# Altium footprint library IC_SMD_PLCC.PcbLib: 2 footprints
Each footprint in its own frame and in the unit in brackets; x right, y up, seen from the top. Pads: shape width x height; smd on the part's side, far side on the other; paste and mask are expansions set on the pad; w line width, h text height; cw(c..) or ccw(c..) is an arc to the next point about the centre after c.
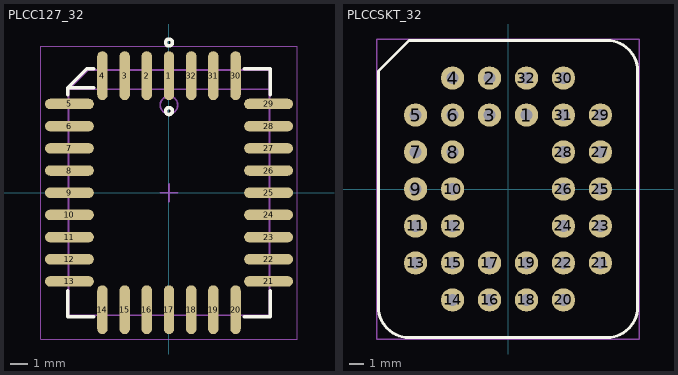
[diagram p0: the footprints below, top view; thin cyan lines are the x and y axes]

## PLCC127_32 [mm] "PLCC, 32-Leads, Body 12.45x14.50mm, Pitch 1.270mm"
height 3.2
pads (32):
  oval 0.6x2.8 smd mask+0.1: 1(0,6.7) 2(-1.27,6.7) 3(-2.54,6.7) 4(-3.81,6.7) 14(-3.81,-6.7) 15(-2.54,-6.7) 16(-1.27,-6.7) 17(0,-6.7) 18(1.27,-6.7) 19(2.54,-6.7) 20(3.81,-6.7) 30(3.81,6.7) 31(2.54,6.7) 32(1.27,6.7)
  oval 2.8x0.6 smd mask+0.1: 5(-5.7,5.08) 6(-5.7,3.81) 7(-5.7,2.54) 8(-5.7,1.27) 9(-5.7,0) 10(-5.7,-1.27) 11(-5.7,-2.54) 12(-5.7,-3.81) 13(-5.7,-5.08) 21(5.7,-5.08) 22(5.7,-3.81) 23(5.7,-2.54) 24(5.7,-1.27) 25(5.7,0) 26(5.7,1.27) 27(5.7,2.54) 28(5.7,3.81) 29(5.7,5.08)
Top Overlay:
  circle w0.2: c0,4.675 r0.2
  circle w0.2: c0,8.6 r0.2
  lines w0.2: -5.8,-5.6 -5.8,-7.1 -4.3,-7.1 ; -5.8,5.6 -5.8,6 ; -4.3,6 -5.8,6 ; -4.3,7.1 -4.7,7.1 -5.8,6 ; 4.3,-7.1 5.8,-7.1 5.8,-5.6 ; 4.3,7.1 5.8,7.1 5.8,5.6
Mechanical 13:
  circle w0.1: c0,5.02 r0.5
  lines w0.1: 5.75,5.92 -5.75,5.92 ; -5.75,5.92 -4.65,7.02 5.75,7.02 5.75,-7.02 -5.75,-7.02 -5.75,5.92
Mechanical 15:
  lines w0.05: -7.35,-8.375 7.35,-8.375 7.35,8.375 -7.35,8.375 -7.35,-8.375
  lines w0.1: -0.5,0 0.5,0 ; 0,-0.5 0,0.5
3D body "SW3dPS-PLCC32.STEP": height 2.89, standoff -0.4, extent -6.201,-7.453 6.299,7.453

## PLCCSKT_32 [mm] "PLCC-32 SOCKET, PGA"
height 1.2
pads (32):
  round 1.6 hole 0.8 mask+0.1: 1(1.27,5.08) 2(-1.27,7.62) 3(-1.27,5.08) 4(-3.81,7.62) 5(-6.35,5.08) 6(-3.81,5.08) 7(-6.35,2.54) 8(-3.81,2.54) 9(-6.35,0) 10(-3.81,0) 11(-6.35,-2.54) 12(-3.81,-2.54) 13(-6.35,-5.08) 14(-3.81,-7.62) 15(-3.81,-5.08) 16(-1.27,-7.62) 17(-1.27,-5.08) 18(1.27,-7.62) 19(1.27,-5.08) 20(3.81,-7.62) 21(6.35,-5.08) 22(3.81,-5.08) 23(6.35,-2.54) 24(3.81,-2.54) 25(6.35,0) 26(3.81,0) 27(6.35,2.54) 28(3.81,2.54) 29(6.35,5.08) 30(3.81,7.62) 31(3.81,5.08) 32(1.27,7.62)
Top Overlay:
  lines w0.2: -8.9,-8.1 ccw(c-6.8,-8.1) -6.8,-10.2 6.8,-10.2 ccw(c6.8,-8.1) 8.9,-8.1 8.9,8.1 ccw(c6.8,8.1) 6.8,10.2 -6.8,10.2 -8.9,8.1 -8.9,-8.1
Mechanical 13:
  lines w0.1: -9,-10.3 9,-10.3 9,10.3 -9,10.3 -9,-10.3
3D body "User Library-PLCC_32_Panel.step": height 8.4, standoff -2.5, extent -8.763,-10.033 8.763,10.033